# EAGLE library part LMP2202 (library TexasInstruments)
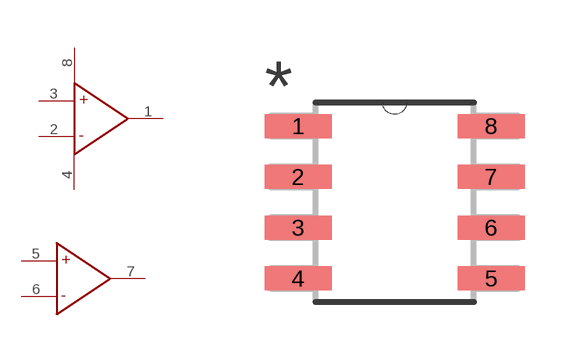
[diagram p9: symbol with the pads of D8-L; footprint D8-L]

Designator prefix -; gates A=LMP2022 B=OPAMP_NOPOWER

## LMP2202  [D8-L]
1  A:OUT
2  A:-
3  A:+
4  A:GND
5  B:+
6  B:-
7  B:OUT
8  A:VIN

## Footprint D8-L (pad centres in mm)
smd 1.676 x 0.6: 1 -2.413,1.905; 2 -2.413,0.635; 3 -2.413,-0.635; 4 -2.413,-1.905; 5 2.413,-1.905; 6 2.413,-0.635; 7 2.413,0.635; 8 2.413,1.905